# Altium footprint library LQFP.PcbLib: 57 footprints (part 2 of 4)
Each footprint in its own frame and in the unit in brackets; x right, y up, seen from the top. Pads: shape width x height; smd on the part's side, far side on the other; paste and mask are expansions set on the pad; w line width, h text height; cw(c..) or ccw(c..) is an arc to the next point about the centre after c.
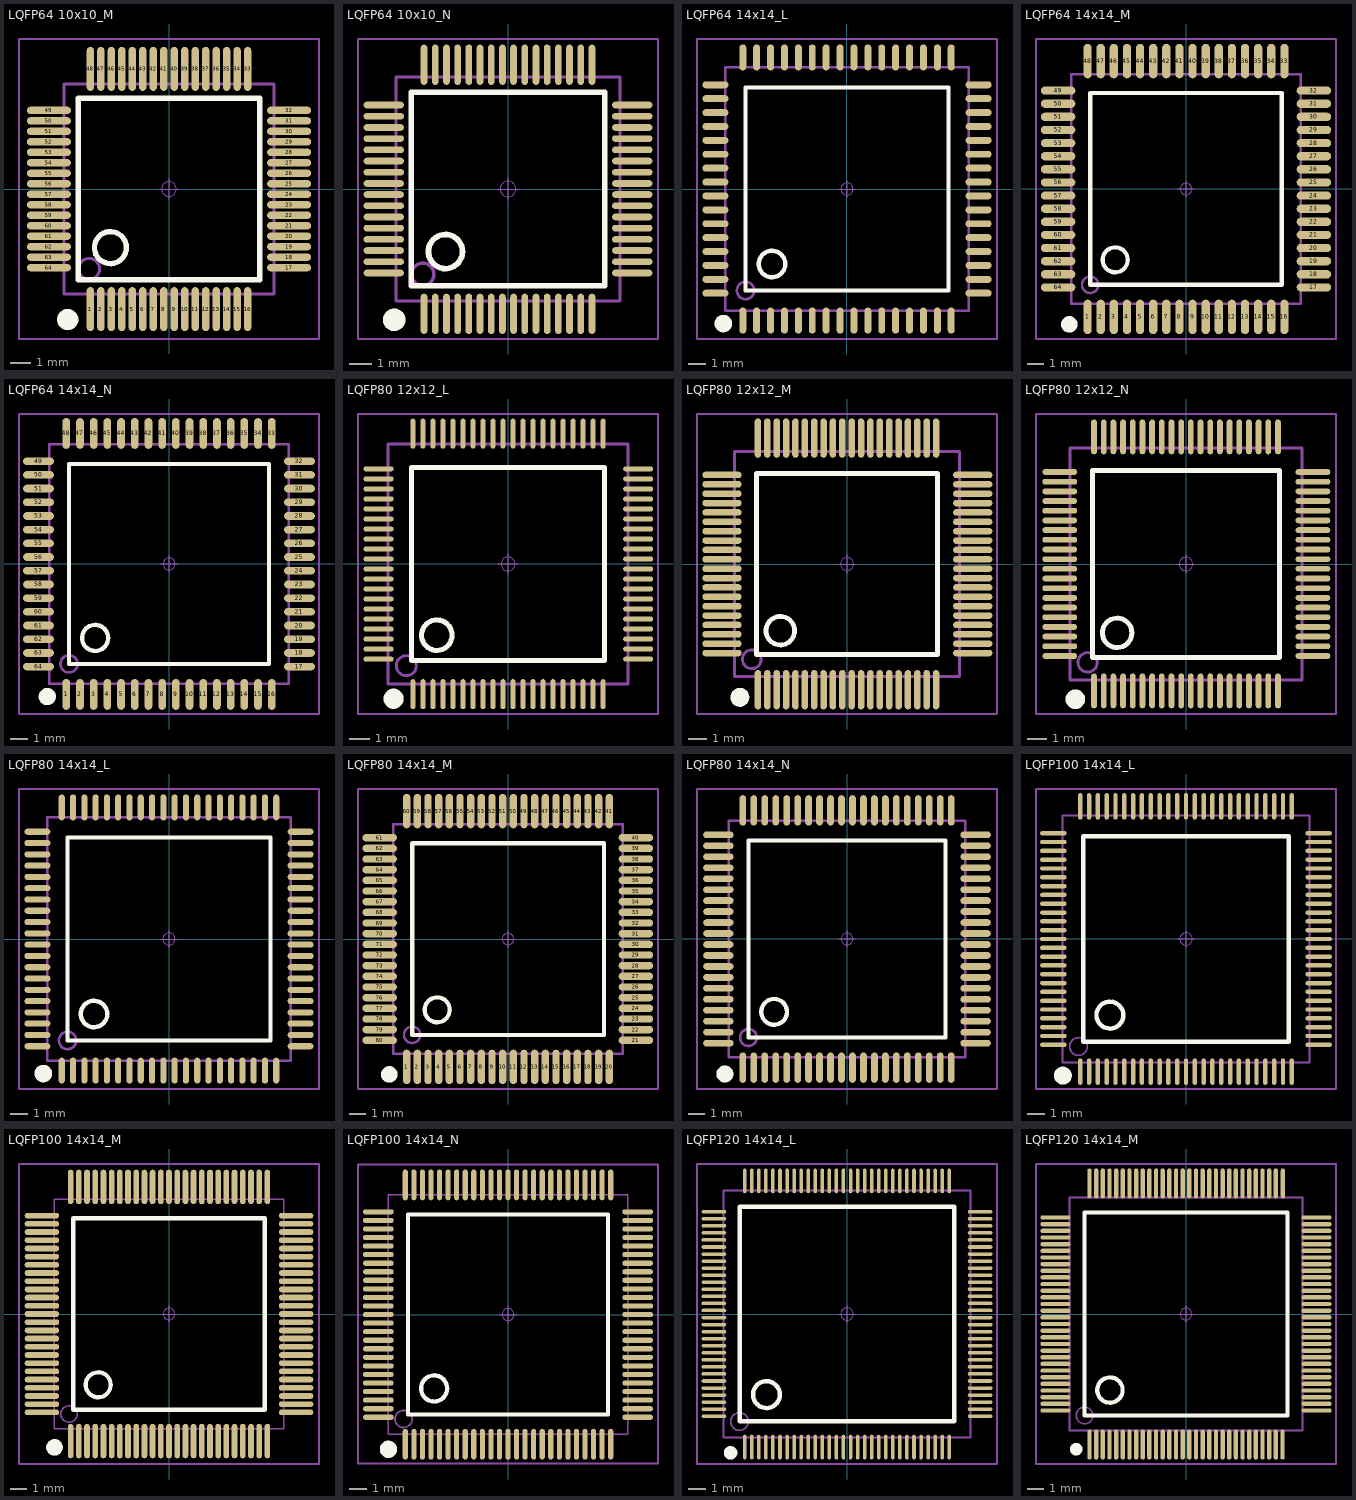
[diagram p1: the footprints below, top view; thin cyan lines are the x and y axes]

## LQFP64 10x10_M [mm] "64脚，体宽10x10mm，脚距0.5mm"
height 1.6
pads (64):
  oval 0.35x2.1 smd: 1(-3.75,-5.727) 2(-3.25,-5.727) 3(-2.75,-5.727) 4(-2.25,-5.727) 5(-1.75,-5.727) 6(-1.25,-5.727) 7(-0.75,-5.727) 8(-0.25,-5.727) 9(0.25,-5.727) 10(0.75,-5.727) 11(1.25,-5.727) 12(1.75,-5.727) 13(2.25,-5.727) 14(2.75,-5.727) 15(3.25,-5.727) 16(3.75,-5.727) 33(3.75,5.727) 34(3.25,5.727) 35(2.75,5.727) 36(2.25,5.727) 37(1.75,5.727) 38(1.25,5.727) 39(0.75,5.727) 40(0.25,5.727) 41(-0.25,5.727) 42(-0.75,5.727) 43(-1.25,5.727) 44(-1.75,5.727) 45(-2.25,5.727) 46(-2.75,5.727) 47(-3.25,5.727) 48(-3.75,5.727)
  oval 2.1x0.35 smd: 17(5.727,-3.75) 18(5.727,-3.25) 19(5.727,-2.75) 20(5.727,-2.25) 21(5.727,-1.75) 22(5.727,-1.25) 23(5.727,-0.75) 24(5.727,-0.25) 25(5.727,0.25) 26(5.727,0.75) 27(5.727,1.25) 28(5.727,1.75) 29(5.727,2.25) 30(5.727,2.75) 31(5.727,3.25) 32(5.727,3.75) 49(-5.727,3.75) 50(-5.727,3.25) 51(-5.727,2.75) 52(-5.727,2.25) 53(-5.727,1.75) 54(-5.727,1.25) 55(-5.727,0.75) 56(-5.727,0.25) 57(-5.727,-0.25) 58(-5.727,-0.75) 59(-5.727,-1.25) 60(-5.727,-1.75) 61(-5.727,-2.25) 62(-5.727,-2.75) 63(-5.727,-3.25) 64(-5.727,-3.75)
Top Overlay:
  circle w0.254: c-2.794,-2.794 r0.762
  circle w0.508: c-4.826,-6.223 r0.25
  lines w0.254: -4.318,-4.318 -4.318,4.318 4.318,4.318 4.318,-4.318 -4.318,-4.318
Mechanical 13:
  circle w0.15: c-3.81,-3.81 r0.5
  lines w0.15: -5,-5 -5,5 5,5 5,-5 -5,-5
Mechanical 15:
  circle w0.05: c0,0 r0.35
  lines w0.05: -0.5,0 0.5,0 ; 0,-0.5 0,0.5
  lines w0.1: -7.15,-7.15 7.15,-7.15 7.15,7.15 -7.15,7.15 -7.15,-7.15
3D body: height 1.45, standoff -0.01, extent -6.003,-6.003 6.003,6.003

## LQFP64 10x10_N [mm] "64脚，体宽10x10mm，脚距0.5mm"
height 1.6
pads (64):
  oval 0.3x1.8 smd: 1(-3.75,-5.575) 2(-3.25,-5.575) 3(-2.75,-5.575) 4(-2.25,-5.575) 5(-1.75,-5.575) 6(-1.25,-5.575) 7(-0.75,-5.575) 8(-0.25,-5.575) 9(0.25,-5.575) 10(0.75,-5.575) 11(1.25,-5.575) 12(1.75,-5.575) 13(2.25,-5.575) 14(2.75,-5.575) 15(3.25,-5.575) 16(3.75,-5.575) 33(3.75,5.55) 34(3.25,5.55) 35(2.75,5.55) 36(2.25,5.55) 37(1.75,5.55) 38(1.25,5.55) 39(0.75,5.55) 40(0.25,5.55) 41(-0.25,5.55) 42(-0.75,5.55) 43(-1.25,5.55) 44(-1.75,5.55) 45(-2.25,5.55) 46(-2.75,5.55) 47(-3.25,5.55) 48(-3.75,5.55)
  oval 1.8x0.3 smd: 17(5.55,-3.75) 18(5.55,-3.25) 19(5.55,-2.75) 20(5.55,-2.25) 21(5.55,-1.75) 22(5.55,-1.25) 23(5.55,-0.75) 24(5.55,-0.25) 25(5.55,0.25) 26(5.55,0.75) 27(5.55,1.25) 28(5.55,1.75) 29(5.55,2.25) 30(5.55,2.75) 31(5.55,3.25) 32(5.55,3.75) 49(-5.55,3.75) 50(-5.55,3.25) 51(-5.55,2.75) 52(-5.55,2.25) 53(-5.55,1.75) 54(-5.55,1.25) 55(-5.55,0.75) 56(-5.55,0.25) 57(-5.55,-0.25) 58(-5.55,-0.75) 59(-5.55,-1.25) 60(-5.55,-1.75) 61(-5.55,-2.25) 62(-5.55,-2.75) 63(-5.55,-3.25) 64(-5.55,-3.75)
Top Overlay:
  circle w0.254: c-2.794,-2.794 r0.762
  circle w0.508: c-5.08,-5.842 r0.25
  lines w0.254: -4.318,-4.318 -4.318,4.318 4.318,4.318 4.318,-4.318 -4.318,-4.318
Mechanical 13:
  circle w0.15: c-3.81,-3.81 r0.5
  lines w0.15: -5,-5 -5,5 5,5 5,-5 -5,-5
Mechanical 15:
  circle w0.05: c0,0 r0.35
  lines w0.05: -0.5,0 0.5,0 ; 0,-0.5 0,0.5
  lines w0.1: -6.7,-6.7 6.7,-6.7 6.7,6.7 -6.7,6.7 -6.7,-6.7
3D body: height 1.45, standoff -0.01, extent -6.003,-6.003 6.003,6.003

## LQFP64 14x14_L [mm] "64脚，体宽14x14mm，脚距0.8mm"
height 1.6
pads (64):
  oval 0.4x1.5 smd: 1(-5.993,-7.576) 2(-5.193,-7.576) 3(-4.393,-7.576) 4(-3.593,-7.576) 5(-2.793,-7.576) 6(-1.993,-7.576) 7(-1.193,-7.576) 8(-0.393,-7.576) 9(0.407,-7.576) 10(1.207,-7.576) 11(2.007,-7.576) 12(2.807,-7.576) 13(3.607,-7.576) 14(4.407,-7.576) 15(5.207,-7.576) 16(6.007,-7.576) 33(6.007,7.576) 34(5.207,7.576) 35(4.407,7.576) 36(3.607,7.576) 37(2.807,7.576) 38(2.007,7.576) 39(1.207,7.576) 40(0.407,7.576) 41(-0.393,7.576) 42(-1.193,7.576) 43(-1.993,7.576) 44(-2.793,7.576) 45(-3.593,7.576) 46(-4.393,7.576) 47(-5.193,7.576) 48(-5.993,7.576)
  oval 1.5x0.4 smd: 17(7.583,-6) 18(7.583,-5.2) 19(7.583,-4.4) 20(7.583,-3.6) 21(7.583,-2.8) 22(7.583,-2) 23(7.583,-1.2) 24(7.583,-0.4) 25(7.583,0.4) 26(7.583,1.2) 27(7.583,2) 28(7.583,2.8) 29(7.583,3.6) 30(7.583,4.4) 31(7.583,5.2) 32(7.583,6) 49(-7.569,6) 50(-7.569,5.2) 51(-7.569,4.4) 52(-7.569,3.6) 53(-7.569,2.8) 54(-7.569,2) 55(-7.569,1.2) 56(-7.569,0.4) 57(-7.569,-0.4) 58(-7.569,-1.2) 59(-7.569,-2) 60(-7.569,-2.8) 61(-7.569,-3.6) 62(-7.569,-4.4) 63(-7.569,-5.2) 64(-7.569,-6)
Top Overlay:
  circle w0.254: c-4.311,-4.318 r0.762
  circle w0.508: c-7.112,-7.747 r0.25
  lines w0.254: -5.835,-5.842 5.849,-5.842 5.849,5.842 -5.835,5.842 -5.835,-5.842
Mechanical 13:
  circle w0.15: c-5.835,-5.842 r0.5
  lines w0.15: -6.993,-7 -6.993,7 7.007,7 7.007,-7 -6.993,-7
Mechanical 15:
  circle w0.05: c0.007,0 r0.35
  lines w0.05: -0.493,0 0.507,0 ; 0.007,-0.5 0.007,0.5
  lines w0.1: -8.629,-8.636 -8.629,8.636 8.643,8.636 8.643,-8.636 -8.629,-8.636
3D body: height 1.45, standoff -0.01, extent -7.996,-8.003 8.01,8.003

## LQFP64 14x14_M [mm] "64脚，体宽14x14mm，脚距0.8mm"
height 1.6
pads (64):
  oval 0.5x2.1 smd: 1(-6,-7.799) 2(-5.2,-7.799) 3(-4.4,-7.799) 4(-3.6,-7.799) 5(-2.8,-7.799) 6(-2,-7.799) 7(-1.2,-7.799) 8(-0.4,-7.799) 9(0.4,-7.799) 10(1.2,-7.799) 11(2,-7.799) 12(2.8,-7.799) 13(3.6,-7.799) 14(4.4,-7.799) 15(5.2,-7.799) 16(6,-7.799) 33(6,7.799) 34(5.2,7.799) 35(4.4,7.799) 36(3.6,7.799) 37(2.8,7.799) 38(2,7.799) 39(1.2,7.799) 40(0.4,7.799) 41(-0.4,7.799) 42(-1.2,7.799) 43(-2,7.799) 44(-2.8,7.799) 45(-3.6,7.799) 46(-4.4,7.799) 47(-5.2,7.799) 48(-6,7.799)
  oval 2.1x0.5 smd: 17(7.799,-6) 18(7.799,-5.2) 19(7.799,-4.4) 20(7.799,-3.6) 21(7.799,-2.8) 22(7.799,-2) 23(7.799,-1.2) 24(7.799,-0.4) 25(7.799,0.4) 26(7.799,1.2) 27(7.799,2) 28(7.799,2.8) 29(7.799,3.6) 30(7.799,4.4) 31(7.799,5.2) 32(7.799,6) 49(-7.799,6) 50(-7.799,5.2) 51(-7.799,4.4) 52(-7.799,3.6) 53(-7.799,2.8) 54(-7.799,2) 55(-7.799,1.2) 56(-7.799,0.4) 57(-7.799,-0.4) 58(-7.799,-1.2) 59(-7.799,-2) 60(-7.799,-2.8) 61(-7.799,-3.6) 62(-7.799,-4.4) 63(-7.799,-5.2) 64(-7.799,-6)
Top Overlay:
  circle w0.508: c-7.112,-8.255 r0.25
  circle w0.254: c-4.318,-4.318 r0.762
  lines w0.254: -5.842,-5.842 -5.842,5.842 5.842,5.842 5.842,-5.842 -5.842,-5.842
Mechanical 13:
  circle w0.15: c-5.842,-5.842 r0.5
  lines w0.15: -7,-7 -7,7 7,7 7,-7 -7,-7
Mechanical 15:
  circle w0.05: c0,0 r0.35
  lines w0.05: -0.5,0 0.5,0 ; 0,-0.5 0,0.5
  lines w0.1: -9.144,-9.144 -9.144,9.144 9.144,9.144 9.144,-9.144 -9.144,-9.144
3D body: height 1.45, standoff -0.01, extent -8.003,-8.003 8.003,8.003

## LQFP64 14x14_N [mm] "64脚，体宽14x14mm，脚距0.8mm"
height 1.6
pads (64):
  oval 0.45x1.8 smd: 1(-6,-7.617) 2(-5.2,-7.617) 3(-4.4,-7.617) 4(-3.6,-7.617) 5(-2.8,-7.617) 6(-2,-7.617) 7(-1.2,-7.617) 8(-0.4,-7.617) 9(0.4,-7.617) 10(1.2,-7.617) 11(2,-7.617) 12(2.8,-7.617) 13(3.6,-7.617) 14(4.4,-7.617) 15(5.2,-7.617) 16(6,-7.617) 33(6,7.629) 34(5.2,7.629) 35(4.4,7.629) 36(3.6,7.629) 37(2.8,7.629) 38(2,7.629) 39(1.2,7.629) 40(0.4,7.629) 41(-0.4,7.629) 42(-1.2,7.629) 43(-2,7.629) 44(-2.8,7.629) 45(-3.6,7.629) 46(-4.4,7.629) 47(-5.2,7.629) 48(-6,7.629)
  oval 1.8x0.45 smd: 17(7.623,-5.994) 18(7.623,-5.194) 19(7.623,-4.394) 20(7.623,-3.594) 21(7.623,-2.794) 22(7.623,-1.994) 23(7.623,-1.194) 24(7.623,-0.394) 25(7.623,0.406) 26(7.623,1.206) 27(7.623,2.006) 28(7.623,2.806) 29(7.623,3.606) 30(7.623,4.406) 31(7.623,5.206) 32(7.623,6.006) 49(-7.623,6.006) 50(-7.623,5.206) 51(-7.623,4.406) 52(-7.623,3.606) 53(-7.623,2.806) 54(-7.623,2.006) 55(-7.623,1.206) 56(-7.623,0.406) 57(-7.623,-0.394) 58(-7.623,-1.194) 59(-7.623,-1.994) 60(-7.623,-2.794) 61(-7.623,-3.594) 62(-7.623,-4.394) 63(-7.623,-5.194) 64(-7.623,-5.994)
Top Overlay:
  circle w0.254: c-4.318,-4.318 r0.762
  circle w0.508: c-7.112,-7.747 r0.25
  lines w0.254: -5.842,-5.842 5.842,-5.842 5.842,5.842 -5.842,5.842 -5.842,-5.842
Mechanical 13:
  circle w0.15: c-5.842,-5.836 r0.5
  lines w0.15: -7,-6.994 -7,7.006 7,7.006 7,-6.994 -7,-6.994
Mechanical 15:
  circle w0.05: c0,0.006 r0.35
  lines w0.05: -0.5,0.006 0.5,0.006 ; 0,-0.494 0,0.506
  lines w0.1: -8.763,-8.763 -8.763,8.763 8.763,8.763 8.763,-8.763 -8.763,-8.763
3D body: height 1.45, standoff -0.01, extent -8.003,-7.997 8.003,8.008

## LQFP80 12x12_L [mm] "80脚，体宽12x12mm，脚距0.5mm"
height 1.6
pads (80):
  oval 0.25x1.5 smd: 1(-4.75,-6.502) 2(-4.25,-6.502) 3(-3.75,-6.502) 4(-3.25,-6.502) 5(-2.75,-6.502) 6(-2.25,-6.502) 7(-1.75,-6.502) 8(-1.25,-6.502) 9(-0.75,-6.502) 10(-0.25,-6.502) 11(0.25,-6.502) 12(0.75,-6.502) 13(1.25,-6.502) 14(1.75,-6.502) 15(2.25,-6.502) 16(2.75,-6.502) 17(3.25,-6.502) 18(3.75,-6.502) 19(4.25,-6.502) 20(4.75,-6.502) 41(4.75,6.514) 42(4.25,6.514) 43(3.75,6.514) 44(3.25,6.514) 45(2.75,6.514) 46(2.25,6.514) 47(1.75,6.514) 48(1.25,6.514) 49(0.75,6.514) 50(0.25,6.514) 51(-0.25,6.514) 52(-0.75,6.514) 53(-1.25,6.514) 54(-1.75,6.514) 55(-2.25,6.514) 56(-2.75,6.514) 57(-3.25,6.514) 58(-3.75,6.514) 59(-4.25,6.514) 60(-4.75,6.514)
  oval 1.5x0.25 smd: 21(6.502,-4.75) 22(6.502,-4.25) 23(6.502,-3.75) 24(6.502,-3.25) 25(6.502,-2.75) 26(6.502,-2.25) 27(6.502,-1.75) 28(6.502,-1.25) 29(6.502,-0.75) 30(6.502,-0.25) 31(6.502,0.25) 32(6.502,0.75) 33(6.502,1.25) 34(6.502,1.75) 35(6.502,2.25) 36(6.502,2.75) 37(6.502,3.25) 38(6.502,3.75) 39(6.502,4.25) 40(6.502,4.75) 61(-6.467,4.75) 62(-6.467,4.25) 63(-6.467,3.75) 64(-6.467,3.25) 65(-6.467,2.75) 66(-6.467,2.25) 67(-6.467,1.75) 68(-6.467,1.25) 69(-6.467,0.75) 70(-6.467,0.25) 71(-6.467,-0.25) 72(-6.467,-0.75) 73(-6.467,-1.25) 74(-6.467,-1.75) 75(-6.467,-2.25) 76(-6.467,-2.75) 77(-6.467,-3.25) 78(-6.467,-3.75) 79(-6.467,-4.25) 80(-6.467,-4.75)
Top Overlay:
  circle w0.254: c-3.556,-3.556 r0.762
  circle w0.508: c-5.715,-6.731 r0.25
  lines w0.254: -4.826,-4.826 4.826,-4.826 4.826,4.826 -4.826,4.826 -4.826,-4.826
Mechanical 13:
  circle w0.15: c-5.08,-5.08 r0.5
  lines w0.15: -6,-6 6,-6 6,6 -6,6 -6,-6
Mechanical 15:
  circle w0.05: c0,0 r0.35
  lines w0.05: -0.5,0 0.5,0 ; 0,-0.5 0,0.5
  lines w0.1: -7.493,-7.493 7.493,-7.493 7.493,7.493 -7.493,7.493 -7.493,-7.493
3D body: height 1.45, standoff -0.01, extent -7.003,-7.003 7.003,7.003

## LQFP80 12x12_M [mm] "80脚，体宽12x12mm，脚距0.5mm"
height 1.6
pads (80):
  oval 0.35x2.1 smd: 1(-4.75,-6.706) 2(-4.25,-6.706) 3(-3.75,-6.706) 4(-3.25,-6.706) 5(-2.75,-6.706) 6(-2.25,-6.706) 7(-1.75,-6.706) 8(-1.25,-6.706) 9(-0.75,-6.706) 10(-0.25,-6.706) 11(0.25,-6.706) 12(0.75,-6.706) 13(1.25,-6.706) 14(1.75,-6.706) 15(2.25,-6.706) 16(2.75,-6.706) 17(3.25,-6.706) 18(3.75,-6.706) 19(4.25,-6.706) 20(4.75,-6.706) 41(4.75,6.717) 42(4.25,6.717) 43(3.75,6.717) 44(3.25,6.717) 45(2.75,6.717) 46(2.25,6.717) 47(1.75,6.717) 48(1.25,6.717) 49(0.75,6.717) 50(0.25,6.717) 51(-0.25,6.717) 52(-0.75,6.717) 53(-1.25,6.717) 54(-1.75,6.717) 55(-2.25,6.717) 56(-2.75,6.717) 57(-3.25,6.717) 58(-3.75,6.717) 59(-4.25,6.717) 60(-4.75,6.717)
  oval 2.1x0.35 smd: 21(6.706,-4.75) 22(6.706,-4.25) 23(6.706,-3.75) 24(6.706,-3.25) 25(6.706,-2.75) 26(6.706,-2.25) 27(6.706,-1.75) 28(6.706,-1.25) 29(6.706,-0.75) 30(6.706,-0.25) 31(6.706,0.25) 32(6.706,0.75) 33(6.706,1.25) 34(6.706,1.75) 35(6.706,2.25) 36(6.706,2.75) 37(6.706,3.25) 38(6.706,3.75) 39(6.706,4.25) 40(6.706,4.75) 61(-6.67,4.75) 62(-6.67,4.25) 63(-6.67,3.75) 64(-6.67,3.25) 65(-6.67,2.75) 66(-6.67,2.25) 67(-6.67,1.75) 68(-6.67,1.25) 69(-6.67,0.75) 70(-6.67,0.25) 71(-6.67,-0.25) 72(-6.67,-0.75) 73(-6.67,-1.25) 74(-6.67,-1.75) 75(-6.67,-2.25) 76(-6.67,-2.75) 77(-6.67,-3.25) 78(-6.67,-3.75) 79(-6.67,-4.25) 80(-6.67,-4.75)
Top Overlay:
  circle w0.254: c-3.556,-3.556 r0.762
  circle w0.508: c-5.715,-7.112 r0.25
  lines w0.254: -4.826,-4.826 -4.826,4.826 4.826,4.826 4.826,-4.826 -4.826,-4.826
Mechanical 13:
  circle w0.15: c-5.08,-5.08 r0.5
  lines w0.15: -6,-6 6,-6 6,6 -6,6 -6,-6
Mechanical 15:
  circle w0.05: c0,0 r0.35
  lines w0.05: -0.5,0 0.5,0 ; 0,-0.5 0,0.5
  lines w0.1: -8.001,-8.001 8.001,-8.001 8.001,8.001 -8.001,8.001 -8.001,-8.001
3D body: height 1.45, standoff -0.01, extent -7.003,-7.003 7.003,7.003

## LQFP80 12x12_N [mm] "80脚，体宽12x12mm，脚距0.5mm"
height 1.6
pads (80):
  oval 0.3x1.8 smd: 1(-4.75,-6.553) 2(-4.25,-6.553) 3(-3.75,-6.553) 4(-3.25,-6.553) 5(-2.75,-6.553) 6(-2.25,-6.553) 7(-1.75,-6.553) 8(-1.25,-6.553) 9(-0.75,-6.553) 10(-0.25,-6.553) 11(0.25,-6.553) 12(0.75,-6.553) 13(1.25,-6.553) 14(1.75,-6.553) 15(2.25,-6.553) 16(2.75,-6.553) 17(3.25,-6.553) 18(3.75,-6.553) 19(4.25,-6.553) 20(4.75,-6.553) 41(4.75,6.564) 42(4.25,6.564) 43(3.75,6.564) 44(3.25,6.564) 45(2.75,6.564) 46(2.25,6.564) 47(1.75,6.564) 48(1.25,6.564) 49(0.75,6.564) 50(0.25,6.564) 51(-0.25,6.564) 52(-0.75,6.564) 53(-1.25,6.564) 54(-1.75,6.564) 55(-2.25,6.564) 56(-2.75,6.564) 57(-3.25,6.564) 58(-3.75,6.564) 59(-4.25,6.564) 60(-4.75,6.564)
  oval 1.8x0.3 smd: 21(6.553,-4.75) 22(6.553,-4.25) 23(6.553,-3.75) 24(6.553,-3.25) 25(6.553,-2.75) 26(6.553,-2.25) 27(6.553,-1.75) 28(6.553,-1.25) 29(6.553,-0.75) 30(6.553,-0.25) 31(6.553,0.25) 32(6.553,0.75) 33(6.553,1.25) 34(6.553,1.75) 35(6.553,2.25) 36(6.553,2.75) 37(6.553,3.25) 38(6.553,3.75) 39(6.553,4.25) 40(6.553,4.75) 61(-6.517,4.75) 62(-6.517,4.25) 63(-6.517,3.75) 64(-6.517,3.25) 65(-6.517,2.75) 66(-6.517,2.25) 67(-6.517,1.75) 68(-6.517,1.25) 69(-6.517,0.75) 70(-6.517,0.25) 71(-6.517,-0.25) 72(-6.517,-0.75) 73(-6.517,-1.25) 74(-6.517,-1.75) 75(-6.517,-2.25) 76(-6.517,-2.75) 77(-6.517,-3.25) 78(-6.517,-3.75) 79(-6.517,-4.25) 80(-6.517,-4.75)
Top Overlay:
  circle w0.508: c-5.715,-6.985 r0.25
  circle w0.254: c-3.556,-3.556 r0.762
  lines w0.254: -4.826,-4.826 4.826,-4.826 4.826,4.826 -4.826,4.826 -4.826,-4.826
Mechanical 13:
  circle w0.15: c-5.08,-5.08 r0.5
  lines w0.15: -6,-6 6,-6 6,6 -6,6 -6,-6
Mechanical 15:
  circle w0.05: c0,0 r0.35
  lines w0.05: -0.5,0 0.5,0 ; 0,-0.5 0,0.5
  lines w0.1: -7.747,-7.747 7.747,-7.747 7.747,7.747 -7.747,7.747 -7.747,-7.747
3D body: height 1.45, standoff -0.01, extent -7.003,-7.003 7.003,7.003

## LQFP80 14x14_L [mm] "80脚，体宽14x14mm，脚距0.65mm"
height 1.6
pads (80):
  oval 0.35x1.5 smd: 1(-6.175,-7.576) 2(-5.525,-7.576) 3(-4.875,-7.576) 4(-4.225,-7.576) 5(-3.575,-7.576) 6(-2.925,-7.576) 7(-2.275,-7.576) 8(-1.625,-7.576) 9(-0.975,-7.576) 10(-0.325,-7.576) 11(0.325,-7.576) 12(0.975,-7.576) 13(1.625,-7.576) 14(2.275,-7.576) 15(2.925,-7.576) 16(3.575,-7.576) 17(4.225,-7.576) 18(4.875,-7.576) 19(5.525,-7.576) 20(6.175,-7.576) 41(6.175,7.576) 42(5.525,7.576) 43(4.875,7.576) 44(4.225,7.576) 45(3.575,7.576) 46(2.925,7.576) 47(2.275,7.576) 48(1.625,7.576) 49(0.975,7.576) 50(0.325,7.576) 51(-0.325,7.576) 52(-0.975,7.576) 53(-1.625,7.576) 54(-2.275,7.576) 55(-2.925,7.576) 56(-3.575,7.576) 57(-4.225,7.576) 58(-4.875,7.576) 59(-5.525,7.576) 60(-6.175,7.576)
  oval 1.5x0.35 smd: 21(7.576,-6.175) 22(7.576,-5.525) 23(7.576,-4.875) 24(7.576,-4.225) 25(7.576,-3.575) 26(7.576,-2.925) 27(7.576,-2.275) 28(7.576,-1.625) 29(7.576,-0.975) 30(7.576,-0.325) 31(7.576,0.325) 32(7.576,0.975) 33(7.576,1.625) 34(7.576,2.275) 35(7.576,2.925) 36(7.576,3.575) 37(7.576,4.225) 38(7.576,4.875) 39(7.576,5.525) 40(7.576,6.175) 61(-7.576,6.175) 62(-7.576,5.525) 63(-7.576,4.875) 64(-7.576,4.225) 65(-7.576,3.575) 66(-7.576,2.925) 67(-7.576,2.275) 68(-7.576,1.625) 69(-7.576,0.975) 70(-7.576,0.325) 71(-7.576,-0.325) 72(-7.576,-0.975) 73(-7.576,-1.625) 74(-7.576,-2.275) 75(-7.576,-2.925) 76(-7.576,-3.575) 77(-7.576,-4.225) 78(-7.576,-4.875) 79(-7.576,-5.525) 80(-7.576,-6.175)
Top Overlay:
  circle w0.254: c-4.318,-4.318 r0.762
  circle w0.508: c-7.239,-7.747 r0.25
  lines w0.254: -5.842,-5.842 5.842,-5.842 5.842,5.842 -5.842,5.842 -5.842,-5.842
Mechanical 13:
  circle w0.15: c-5.842,-5.842 r0.5
  lines w0.15: -7,-7 7,-7 7,7 -7,7 -7,-7
Mechanical 15:
  circle w0.05: c0,0 r0.35
  lines w0.05: -0.5,0 0.5,0 ; 0,-0.5 0,0.5
  lines w0.1: -8.636,-8.636 8.636,-8.636 8.636,8.636 -8.636,8.636 -8.636,-8.636
3D body: height 1.45, standoff -0.01, extent -8.003,-8.003 8.003,8.003

## LQFP80 14x14_M [mm] "80脚，体宽14x14mm，脚距0.65mm"
height 1.6
pads (80):
  oval 0.45x2.1 smd: 1(-6.175,-7.797) 2(-5.525,-7.797) 3(-4.875,-7.797) 4(-4.225,-7.797) 5(-3.575,-7.797) 6(-2.925,-7.797) 7(-2.275,-7.797) 8(-1.625,-7.797) 9(-0.975,-7.797) 10(-0.325,-7.797) 11(0.325,-7.797) 12(0.975,-7.797) 13(1.625,-7.797) 14(2.275,-7.797) 15(2.925,-7.797) 16(3.575,-7.797) 17(4.225,-7.797) 18(4.875,-7.797) 19(5.525,-7.797) 20(6.175,-7.797) 41(6.175,7.797) 42(5.525,7.797) 43(4.875,7.797) 44(4.225,7.797) 45(3.575,7.797) 46(2.925,7.797) 47(2.275,7.797) 48(1.625,7.797) 49(0.975,7.797) 50(0.325,7.797) 51(-0.325,7.797) 52(-0.975,7.797) 53(-1.625,7.797) 54(-2.275,7.797) 55(-2.925,7.797) 56(-3.575,7.797) 57(-4.225,7.797) 58(-4.875,7.797) 59(-5.525,7.797) 60(-6.175,7.797)
  oval 2.1x0.45 smd: 21(7.797,-6.175) 22(7.797,-5.525) 23(7.797,-4.875) 24(7.797,-4.225) 25(7.797,-3.575) 26(7.797,-2.925) 27(7.797,-2.275) 28(7.797,-1.625) 29(7.797,-0.975) 30(7.797,-0.325) 31(7.797,0.325) 32(7.797,0.975) 33(7.797,1.625) 34(7.797,2.275) 35(7.797,2.925) 36(7.797,3.575) 37(7.797,4.225) 38(7.797,4.875) 39(7.797,5.525) 40(7.797,6.175) 61(-7.822,6.175) 62(-7.822,5.525) 63(-7.822,4.875) 64(-7.822,4.225) 65(-7.822,3.575) 66(-7.822,2.925) 67(-7.822,2.275) 68(-7.822,1.625) 69(-7.822,0.975) 70(-7.822,0.325) 71(-7.822,-0.325) 72(-7.822,-0.975) 73(-7.822,-1.625) 74(-7.822,-2.275) 75(-7.822,-2.925) 76(-7.822,-3.575) 77(-7.822,-4.225) 78(-7.822,-4.875) 79(-7.822,-5.525) 80(-7.822,-6.175)
Top Overlay:
  circle w0.254: c-4.318,-4.318 r0.762
  circle w0.508: c-7.239,-8.255 r0.25
  lines w0.254: -5.842,-5.842 5.842,-5.842 5.842,5.842 -5.842,5.842 -5.842,-5.842
Mechanical 13:
  circle w0.15: c-5.842,-5.842 r0.5
  lines w0.15: -7,-7 7,-7 7,7 -7,7 -7,-7
Mechanical 15:
  circle w0.05: c0,0 r0.35
  lines w0.05: -0.5,0 0.5,0 ; 0,-0.5 0,0.5
  lines w0.1: -9.144,-9.144 9.144,-9.144 9.144,9.144 -9.144,9.144 -9.144,-9.144
3D body: height 1.45, standoff -0.01, extent -8.003,-8.003 8.003,8.003

## LQFP80 14x14_N [mm] "80脚，体宽14x14mm，脚距0.65mm"
height 1.6
pads (80):
  oval 0.4x1.8 smd: 1(-6.175,-7.623) 2(-5.525,-7.623) 3(-4.875,-7.623) 4(-4.225,-7.623) 5(-3.575,-7.623) 6(-2.925,-7.623) 7(-2.275,-7.623) 8(-1.625,-7.623) 9(-0.975,-7.623) 10(-0.325,-7.623) 11(0.325,-7.623) 12(0.975,-7.623) 13(1.625,-7.623) 14(2.275,-7.623) 15(2.925,-7.623) 16(3.575,-7.623) 17(4.225,-7.623) 18(4.875,-7.623) 19(5.525,-7.623) 20(6.175,-7.623) 41(6.175,7.623) 42(5.525,7.623) 43(4.875,7.623) 44(4.225,7.623) 45(3.575,7.623) 46(2.925,7.623) 47(2.275,7.623) 48(1.625,7.623) 49(0.975,7.623) 50(0.325,7.623) 51(-0.325,7.623) 52(-0.975,7.623) 53(-1.625,7.623) 54(-2.275,7.623) 55(-2.925,7.623) 56(-3.575,7.623) 57(-4.225,7.623) 58(-4.875,7.623) 59(-5.525,7.623) 60(-6.175,7.623)
  oval 1.8x0.4 smd: 21(7.623,-6.175) 22(7.623,-5.525) 23(7.623,-4.875) 24(7.623,-4.225) 25(7.623,-3.575) 26(7.623,-2.925) 27(7.623,-2.275) 28(7.623,-1.625) 29(7.623,-0.975) 30(7.623,-0.325) 31(7.623,0.325) 32(7.623,0.975) 33(7.623,1.625) 34(7.623,2.275) 35(7.623,2.925) 36(7.623,3.575) 37(7.623,4.225) 38(7.623,4.875) 39(7.623,5.525) 40(7.623,6.175) 61(-7.623,6.175) 62(-7.623,5.525) 63(-7.623,4.875) 64(-7.623,4.225) 65(-7.623,3.575) 66(-7.623,2.925) 67(-7.623,2.275) 68(-7.623,1.625) 69(-7.623,0.975) 70(-7.623,0.325) 71(-7.623,-0.325) 72(-7.623,-0.975) 73(-7.623,-1.625) 74(-7.623,-2.275) 75(-7.623,-2.925) 76(-7.623,-3.575) 77(-7.623,-4.225) 78(-7.623,-4.875) 79(-7.623,-5.525) 80(-7.623,-6.175)
Top Overlay:
  circle w0.508: c-7.239,-8.001 r0.25
  circle w0.254: c-4.318,-4.318 r0.762
  lines w0.254: -5.842,-5.842 -5.842,5.842 5.842,5.842 5.842,-5.842 -5.842,-5.842
Mechanical 13:
  circle w0.15: c-5.842,-5.842 r0.5
  lines w0.15: -7,-7 -7,7 7,7 7,-7 -7,-7
Mechanical 15:
  circle w0.05: c0,0 r0.35
  lines w0.05: -0.5,0 0.5,0 ; 0,-0.5 0,0.5
  lines w0.1: -8.89,-8.89 -8.89,8.89 8.89,8.89 8.89,-8.89 -8.89,-8.89
3D body: height 1.45, standoff -0.01, extent -8.003,-8.003 8.003,8.003

## LQFP100 14x14_L [mm] "100脚，体宽14x14mm，脚距0.5mm"
height 1.6
pads (100):
  oval 0.25x1.5 smd: 1(-6,-7.525) 2(-5.5,-7.525) 3(-5,-7.525) 4(-4.5,-7.525) 5(-4,-7.525) 6(-3.5,-7.525) 7(-3,-7.525) 8(-2.5,-7.525) 9(-2,-7.525) 10(-1.5,-7.525) 11(-1,-7.525) 12(-0.5,-7.525) 13(0,-7.525) 14(0.5,-7.525) 15(1,-7.525) 16(1.5,-7.525) 17(2,-7.525) 18(2.5,-7.525) 19(3,-7.525) 20(3.5,-7.525) 21(4,-7.525) 22(4.5,-7.525) 23(5,-7.525) 24(5.5,-7.525) 25(6,-7.525) 51(6,7.525) 52(5.5,7.525) 53(5,7.525) 54(4.5,7.525) 55(4,7.525) 56(3.5,7.525) 57(3,7.525) 58(2.5,7.525) 59(2,7.525) 60(1.5,7.525) 61(1,7.525) 62(0.5,7.525) 63(0,7.525) 64(-0.5,7.525) 65(-1,7.525) 66(-1.5,7.525) 67(-2,7.525) 68(-2.5,7.525) 69(-3,7.525) 70(-3.5,7.525) 71(-4,7.525) 72(-4.5,7.525) 73(-5,7.525) 74(-5.5,7.525) 75(-6,7.525)
  oval 1.5x0.25 smd: 26(7.525,-6) 27(7.525,-5.5) 28(7.525,-5) 29(7.525,-4.5) 30(7.525,-4) 31(7.525,-3.5) 32(7.525,-3) 33(7.525,-2.5) 34(7.525,-2) 35(7.525,-1.5) 36(7.525,-1) 37(7.525,-0.5) 38(7.525,0) 39(7.525,0.5) 40(7.525,1) 41(7.525,1.5) 42(7.525,2) 43(7.525,2.5) 44(7.525,3) 45(7.525,3.5) 46(7.525,4) 47(7.525,4.5) 48(7.525,5) 49(7.525,5.5) 50(7.525,6) 76(-7.525,6) 77(-7.525,5.5) 78(-7.525,5) 79(-7.525,4.5) 80(-7.525,4) 81(-7.525,3.5) 82(-7.525,3) 83(-7.525,2.5) 84(-7.525,2) 85(-7.525,1.5) 86(-7.525,1) 87(-7.525,0.5) 88(-7.525,0) 89(-7.525,-0.5) 90(-7.525,-1) 91(-7.525,-1.5) 92(-7.525,-2) 93(-7.525,-2.5) 94(-7.525,-3) 95(-7.525,-3.5) 96(-7.525,-4) 97(-7.525,-4.5) 98(-7.525,-5) 99(-7.525,-5.5) 100(-7.525,-6)
Top Overlay:
  circle w0.254: c-4.318,-4.318 r0.762
  circle w0.508: c-6.985,-7.747 r0.25
  lines w0.254: -5.842,-5.842 5.842,-5.842 5.842,5.842 -5.842,5.842 -5.842,-5.842
Mechanical 13:
  circle w0.1: c-6.1,-6.1 r0.5
  lines w0.1: -7,-7 7,-7 7,7 -7,7 -7,-7
Mechanical 15:
  circle w0.05: c0,0 r0.35
  lines w0.05: -0.5,0 0.5,0 ; 0,-0.5 0,0.5
  lines w0.1: -8.509,-8.509 8.509,-8.509 8.509,8.509 -8.509,8.509 -8.509,-8.509
3D body: height 1.45, standoff -0.01, extent -8.003,-8.003 8.003,8.003

## LQFP100 14x14_M [mm] "100脚，体宽14x14mm，脚距0.5mm"
height 1.6
pads (100):
  oval 0.35x2.1 smd: 1(-6,-7.747) 2(-5.5,-7.747) 3(-5,-7.747) 4(-4.5,-7.747) 5(-4,-7.747) 6(-3.5,-7.747) 7(-3,-7.747) 8(-2.5,-7.747) 9(-2,-7.747) 10(-1.5,-7.747) 11(-1,-7.747) 12(-0.5,-7.747) 13(0,-7.747) 14(0.5,-7.747) 15(1,-7.747) 16(1.5,-7.747) 17(2,-7.747) 18(2.5,-7.747) 19(3,-7.747) 20(3.5,-7.747) 21(4,-7.747) 22(4.5,-7.747) 23(5,-7.747) 24(5.5,-7.747) 25(6,-7.747) 51(6,7.758) 52(5.5,7.758) 53(5,7.758) 54(4.5,7.758) 55(4,7.758) 56(3.5,7.758) 57(3,7.758) 58(2.5,7.758) 59(2,7.758) 60(1.5,7.758) 61(1,7.758) 62(0.5,7.758) 63(0,7.758) 64(-0.5,7.758) 65(-1,7.758) 66(-1.5,7.758) 67(-2,7.758) 68(-2.5,7.758) 69(-3,7.758) 70(-3.5,7.758) 71(-4,7.758) 72(-4.5,7.758) 73(-5,7.758) 74(-5.5,7.758) 75(-6,7.758)
  oval 2.1x0.35 smd: 26(7.752,-5.994) 27(7.752,-5.494) 28(7.752,-4.994) 29(7.752,-4.494) 30(7.752,-3.994) 31(7.752,-3.494) 32(7.752,-2.994) 33(7.752,-2.494) 34(7.752,-1.994) 35(7.752,-1.494) 36(7.752,-0.994) 37(7.752,-0.494) 38(7.752,0.006) 39(7.752,0.506) 40(7.752,1.006) 41(7.752,1.506) 42(7.752,2.006) 43(7.752,2.506) 44(7.752,3.006) 45(7.752,3.506) 46(7.752,4.006) 47(7.752,4.506) 48(7.752,5.006) 49(7.752,5.506) 50(7.752,6.006) 76(-7.752,6.006) 77(-7.752,5.506) 78(-7.752,5.006) 79(-7.752,4.506) 80(-7.752,4.006) 81(-7.752,3.506) 82(-7.752,3.006) 83(-7.752,2.506) 84(-7.752,2.006) 85(-7.752,1.506) 86(-7.752,1.006) 87(-7.752,0.506) 88(-7.752,0.006) 89(-7.752,-0.494) 90(-7.752,-0.994) 91(-7.752,-1.494) 92(-7.752,-1.994) 93(-7.752,-2.494) 94(-7.752,-2.994) 95(-7.752,-3.494) 96(-7.752,-3.994) 97(-7.752,-4.494) 98(-7.752,-4.994) 99(-7.752,-5.494) 100(-7.752,-5.994)
Top Overlay:
  circle w0.508: c-6.985,-8.128 r0.25
  circle w0.254: c-4.318,-4.312 r0.762
  lines w0.254: -5.842,-5.836 -5.842,5.848 5.842,5.848 5.842,-5.836 -5.842,-5.836
Mechanical 13:
  circle w0.1: c-6.1,-6.094 r0.5
  lines w0.1: -7,-6.994 7,-6.994 7,7.006 -7,7.006 -7,-6.994
Mechanical 15:
  circle w0.05: c0,0.006 r0.35
  lines w0.05: -0.5,0.006 0.5,0.006 ; 0,-0.494 0,0.506
  lines w0.1: -9.15,-9.144 9.15,-9.144 9.15,9.156 -9.15,9.156 -9.15,-9.144
3D body: height 1.45, standoff -0.01, extent -8.003,-7.997 8.003,8.009

## LQFP100 14x14_N [mm] "100脚，体宽14x14mm，脚距0.5mm"
height 1.6
pads (100):
  oval 0.3x1.8 smd: 1(-6,-7.575) 2(-5.5,-7.575) 3(-5,-7.575) 4(-4.5,-7.575) 5(-4,-7.575) 6(-3.5,-7.575) 7(-3,-7.575) 8(-2.5,-7.575) 9(-2,-7.575) 10(-1.5,-7.575) 11(-1,-7.575) 12(-0.5,-7.575) 13(0,-7.575) 14(0.5,-7.575) 15(1,-7.575) 16(1.5,-7.575) 17(2,-7.575) 18(2.5,-7.575) 19(3,-7.575) 20(3.5,-7.575) 21(4,-7.575) 22(4.5,-7.575) 23(5,-7.575) 24(5.5,-7.575) 25(6,-7.575) 51(6,7.575) 52(5.5,7.575) 53(5,7.575) 54(4.5,7.575) 55(4,7.575) 56(3.5,7.575) 57(3,7.575) 58(2.5,7.575) 59(2,7.575) 60(1.5,7.575) 61(1,7.575) 62(0.5,7.575) 63(0,7.575) 64(-0.5,7.575) 65(-1,7.575) 66(-1.5,7.575) 67(-2,7.575) 68(-2.5,7.575) 69(-3,7.575) 70(-3.5,7.575) 71(-4,7.575) 72(-4.5,7.575) 73(-5,7.575) 74(-5.5,7.575) 75(-6,7.575)
  oval 1.8x0.3 smd: 26(7.576,-6) 27(7.576,-5.5) 28(7.576,-5) 29(7.576,-4.5) 30(7.576,-4) 31(7.576,-3.5) 32(7.576,-3) 33(7.576,-2.5) 34(7.576,-2) 35(7.576,-1.5) 36(7.576,-1) 37(7.576,-0.5) 38(7.576,0) 39(7.576,0.5) 40(7.576,1) 41(7.576,1.5) 42(7.576,2) 43(7.576,2.5) 44(7.576,3) 45(7.576,3.5) 46(7.576,4) 47(7.576,4.5) 48(7.576,5) 49(7.576,5.5) 50(7.576,6) 76(-7.575,6) 77(-7.575,5.5) 78(-7.575,5) 79(-7.575,4.5) 80(-7.575,4) 81(-7.575,3.5) 82(-7.575,3) 83(-7.575,2.5) 84(-7.575,2) 85(-7.575,1.5) 86(-7.575,1) 87(-7.575,0.5) 88(-7.575,0) 89(-7.575,-0.5) 90(-7.575,-1) 91(-7.575,-1.5) 92(-7.575,-2) 93(-7.575,-2.5) 94(-7.575,-3) 95(-7.575,-3.5) 96(-7.575,-4) 97(-7.575,-4.5) 98(-7.575,-5) 99(-7.575,-5.5) 100(-7.575,-6)
Top Overlay:
  circle w0.254: c-4.318,-4.318 r0.762
  circle w0.508: c-6.985,-7.874 r0.25
  lines w0.254: -5.842,-5.842 5.842,-5.842 5.842,5.842 -5.842,5.842 -5.842,-5.842
Mechanical 13:
  circle w0.1: c-6.1,-6.1 r0.5
  lines w0.1: -7,-7 -7,7 7,7 7,-7 -7,-7
Mechanical 15:
  circle w0.05: c0,0 r0.35
  lines w0.05: -0.5,0 0.5,0 ; 0,-0.5 0,0.5
  lines w0.1: -8.763,-8.7 -8.763,8.763 8.763,8.763 8.763,-8.7 -8.763,-8.7
3D body: height 1.45, standoff -0.01, extent -8.003,-8.003 8.003,8.003

## LQFP120 14x14_L [mm] "120脚，体宽：14x14mm, 脚距：0.4mm"
pads (120):
  oval 0.2x1.4 smd: 1(-5.8,-7.549) 2(-5.4,-7.549) 3(-5,-7.549) 4(-4.6,-7.549) 5(-4.2,-7.549) 6(-3.8,-7.549) 7(-3.4,-7.549) 8(-3,-7.549) 9(-2.6,-7.549) 10(-2.2,-7.549) 11(-1.8,-7.549) 12(-1.4,-7.549) 13(-1,-7.549) 14(-0.6,-7.549) 15(-0.2,-7.549) 16(0.2,-7.549) 17(0.6,-7.549) 18(1,-7.549) 19(1.4,-7.549) 20(1.8,-7.549) 21(2.2,-7.549) 22(2.6,-7.549) 23(3,-7.549) 24(3.4,-7.549) 25(3.8,-7.549) 26(4.2,-7.549) 27(4.6,-7.549) 28(5,-7.549) 29(5.4,-7.549) 30(5.8,-7.549) 61(5.8,7.549) 62(5.4,7.549) 63(5,7.549) 64(4.6,7.549) 65(4.2,7.549) 66(3.8,7.549) 67(3.4,7.549) 68(3,7.549) 69(2.6,7.549) 70(2.2,7.549) 71(1.8,7.549) 72(1.4,7.549) 73(1,7.549) 74(0.6,7.549) 75(0.2,7.549) 76(-0.2,7.549) 77(-0.6,7.549) 78(-1,7.549) 79(-1.4,7.549) 80(-1.8,7.549) 81(-2.2,7.549) 82(-2.6,7.549) 83(-3,7.549) 84(-3.4,7.549) 85(-3.8,7.549) 86(-4.2,7.549) 87(-4.6,7.549) 88(-5,7.549) 89(-5.4,7.549) 90(-5.8,7.549)
  oval 1.4x0.2 smd: 31(7.549,-5.8) 32(7.549,-5.4) 33(7.549,-5) 34(7.549,-4.6) 35(7.549,-4.2) 36(7.549,-3.8) 37(7.549,-3.4) 38(7.549,-3) 39(7.549,-2.6) 40(7.549,-2.2) 41(7.549,-1.8) 42(7.549,-1.4) 43(7.549,-1) 44(7.549,-0.6) 45(7.549,-0.2) 46(7.549,0.2) 47(7.549,0.6) 48(7.549,1) 49(7.549,1.4) 50(7.549,1.8) 51(7.549,2.2) 52(7.549,2.6) 53(7.549,3) 54(7.549,3.4) 55(7.549,3.8) 56(7.549,4.2) 57(7.549,4.6) 58(7.549,5) 59(7.549,5.4) 60(7.549,5.8) 91(-7.549,5.8) 92(-7.549,5.4) 93(-7.549,5) 94(-7.549,4.6) 95(-7.549,4.2) 96(-7.549,3.8) 97(-7.549,3.4) 98(-7.549,3) 99(-7.549,2.6) 100(-7.549,2.2) 101(-7.549,1.8) 102(-7.549,1.4) 103(-7.549,1) 104(-7.549,0.6) 105(-7.549,0.2) 106(-7.549,-0.2) 107(-7.549,-0.6) 108(-7.549,-1) 109(-7.549,-1.4) 110(-7.549,-1.8) 111(-7.549,-2.2) 112(-7.549,-2.6) 113(-7.549,-3) 114(-7.549,-3.4) 115(-7.549,-3.8) 116(-7.549,-4.2) 117(-7.549,-4.6) 118(-7.549,-5) 119(-7.549,-5.4) 120(-7.549,-5.8)
Top Overlay:
  circle w0.254: c-4.572,-4.572 r0.762
  circle w0.508: c-6.604,-7.874 r0.127
  lines w0.254: -6.096,-6.096 -6.096,6.096 6.096,6.096 6.096,-6.096 -6.096,-6.096
Mechanical 13:
  circle w0.1: c-6.1,-6.1 r0.5
  lines w0.1: -7,-7 -7,7 7,7 7,-7 -7,-7
Mechanical 15:
  circle w0.05: c0,0 r0.35
  lines w0.05: -0.5,0 0.5,0 ; 0,-0.5 0,0.5
  lines w0.1: -8.509,-8.509 -8.509,8.509 8.509,8.509 8.509,-8.509 -8.509,-8.509
3D body: height 1.45, standoff -0.01, extent -8.003,-8.003 8.003,8.003

## LQFP120 14x14_M [mm] "120脚，体宽：14x14mm, 脚距：0.4mm"
pads (120):
  oval 0.26x1.8 smd: 1(-5.8,-7.854) 2(-5.4,-7.854) 3(-5,-7.854) 4(-4.6,-7.854) 5(-4.2,-7.854) 6(-3.8,-7.854) 7(-3.4,-7.854) 8(-3,-7.854) 9(-2.6,-7.854) 10(-2.2,-7.854) 11(-1.8,-7.854) 12(-1.4,-7.854) 13(-1,-7.854) 14(-0.6,-7.854) 15(-0.2,-7.854) 16(0.2,-7.854) 17(0.6,-7.854) 18(1,-7.854) 19(1.4,-7.854) 20(1.8,-7.854) 21(2.2,-7.854) 22(2.6,-7.854) 23(3,-7.854) 24(3.4,-7.854) 25(3.8,-7.854) 26(4.2,-7.854) 27(4.6,-7.854) 28(5,-7.854) 29(5.4,-7.854) 30(5.8,-7.854) 61(5.825,7.854) 62(5.4,7.854) 63(5,7.854) 64(4.6,7.854) 65(4.2,7.854) 66(3.8,7.854) 67(3.4,7.854) 68(3,7.854) 69(2.6,7.854) 70(2.2,7.854) 71(1.8,7.854) 72(1.4,7.854) 73(1,7.854) 74(0.6,7.854) 75(0.2,7.854) 76(-0.2,7.854) 77(-0.6,7.854) 78(-1,7.854) 79(-1.4,7.854) 80(-1.8,7.854) 81(-2.2,7.854) 82(-2.6,7.854) 83(-3,7.854) 84(-3.4,7.854) 85(-3.8,7.854) 86(-4.2,7.854) 87(-4.6,7.854) 88(-5,7.854) 89(-5.4,7.854) 90(-5.8,7.854)
  oval 1.8x0.26 smd: 31(7.854,-5.8) 32(7.854,-5.4) 33(7.854,-5) 34(7.854,-4.6) 35(7.854,-4.2) 36(7.854,-3.8) 37(7.854,-3.4) 38(7.854,-3) 39(7.854,-2.6) 40(7.854,-2.2) 41(7.854,-1.8) 42(7.854,-1.4) 43(7.854,-1) 44(7.854,-0.6) 45(7.854,-0.2) 46(7.854,0.2) 47(7.854,0.6) 48(7.854,1) 49(7.854,1.4) 50(7.854,1.8) 51(7.854,2.2) 52(7.854,2.6) 53(7.854,3) 54(7.854,3.4) 55(7.854,3.8) 56(7.854,4.2) 57(7.854,4.6) 58(7.854,5) 59(7.854,5.4) 60(7.854,5.8) 91(-7.854,5.8) 92(-7.854,5.4) 93(-7.854,5) 94(-7.854,4.6) 95(-7.854,4.2) 96(-7.854,3.8) 97(-7.854,3.4) 98(-7.854,3) 99(-7.854,2.6) 100(-7.854,2.2) 101(-7.854,1.8) 102(-7.854,1.4) 103(-7.854,1) 104(-7.854,0.6) 105(-7.854,0.2) 106(-7.854,-0.2) 107(-7.854,-0.6) 108(-7.854,-1) 109(-7.854,-1.4) 110(-7.854,-1.8) 111(-7.854,-2.2) 112(-7.854,-2.6) 113(-7.854,-3) 114(-7.854,-3.4) 115(-7.854,-3.8) 116(-7.854,-4.2) 117(-7.854,-4.6) 118(-7.854,-5) 119(-7.854,-5.4) 120(-7.854,-5.8)
Top Overlay:
  circle w0.254: c-4.572,-4.572 r0.762
  circle w0.508: c-6.604,-8.128 r0.127
  lines w0.254: -6.096,-6.096 -6.096,6.096 6.096,6.096 6.096,-6.096 -6.096,-6.096
Mechanical 13:
  circle w0.1: c-6.1,-6.1 r0.5
  lines w0.1: -7,-7 -7,7 7,7 7,-7 -7,-7
Mechanical 15:
  circle w0.05: c0,0 r0.35
  lines w0.05: -0.5,0 0.5,0 ; 0,-0.5 0,0.5
  lines w0.1: -9.017,-9.017 -9.017,9.017 9.017,9.017 9.017,-9.017 -9.017,-9.017
3D body: height 1.45, standoff -0.01, extent -8.003,-8.003 8.003,8.003